# Altium footprint library SAMTEC_TSM-103-01-S-DV.PcbLib: 1 footprints
Each footprint in its own frame and in the unit in brackets; x right, y up, seen from the top. Pads: shape width x height; smd on the part's side, far side on the other; paste and mask are expansions set on the pad; w line width, h text height; cw(c..) or ccw(c..) is an arc to the next point about the centre after c.
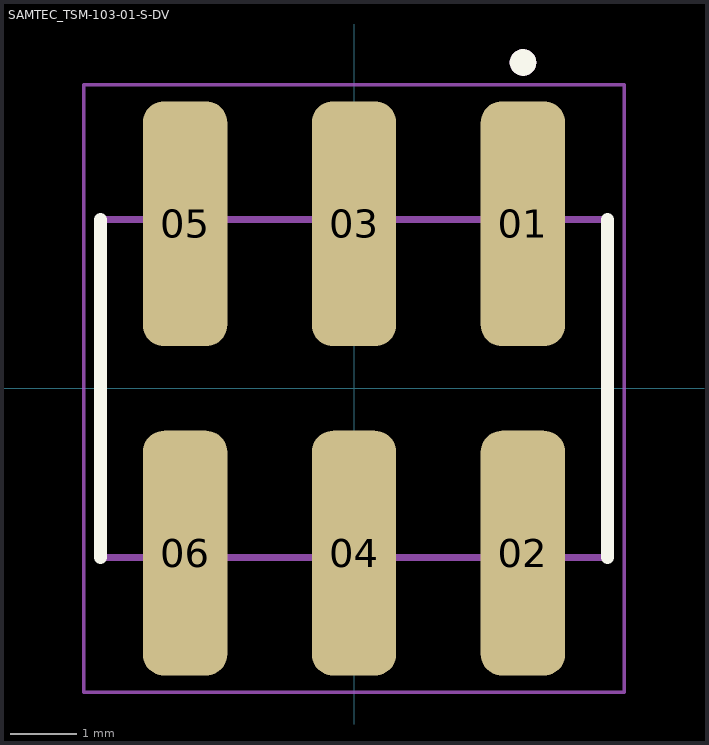
[diagram p0: the footprint, top view; thin cyan lines are the x and y axes]

## SAMTEC_TSM-103-01-S-DV [mm]
pads (6):
  rrect50% 1.27x3.68 smd: 01(2.54,2.475) 02(2.54,-2.475) 03(0,2.475) 04(0,-2.475) 05(-2.54,2.475) 06(-2.54,-2.475)
Top Overlay:
  circle w0.2: c2.54,4.9 r0.1
  lines w0.2: -3.81,-2.54 -3.81,2.54 ; 3.81,-2.54 3.81,2.54
Top 3D Body:
  circle w0.2: c2.54,4.9 r0.1
  lines w0.1: -3.81,-2.54 3.81,-2.54 3.81,2.54 -3.81,2.54 -3.81,-2.54
Top Courtyard:
  lines w0.05: -4.06,-4.565 4.06,-4.565 4.06,4.565 -4.06,4.565 -4.06,-4.565
Top Designator (Mech29):
  text ".Designator" at 0.4,-5.998 h1.2
3D body "step_temp.STEP": height 9.91, standoff 0, extent -3.81,-3.848 3.81,3.848